# EAGLE library part IXDN602SIA (library 3D_MIG_Controller)
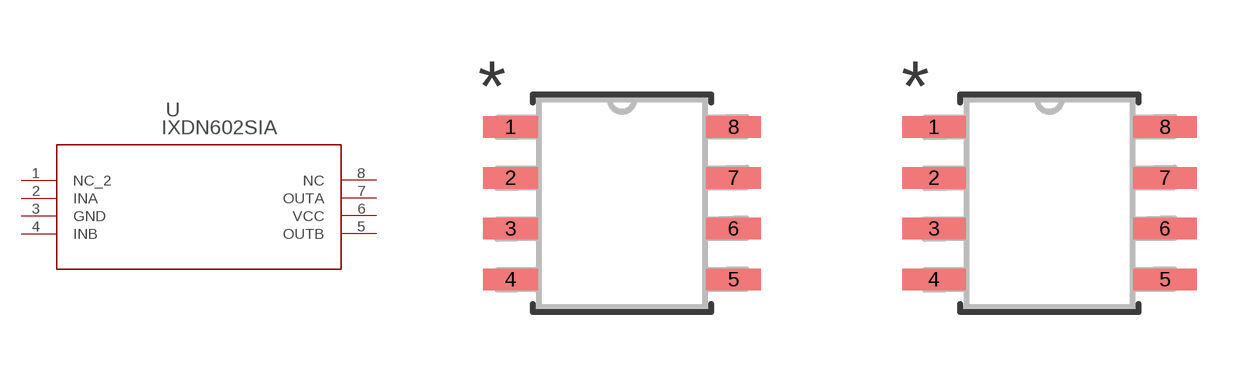
[diagram p57: symbol with the pads of IXYS_SOIC-8_IXY; footprints IXYS_SOIC-8_IXY, IXYS_SOIC-8_IXY-M]

Designator prefix U

## IXDN602SIA (BUILT_BY: EMA_UL_Team; MANUFACTURER_PART_NUMBER: IXDN602SIA; SOURCELIBRARY: IXYS_2014-15-09; VENDOR: IXYS)  [IXYS_SOIC-8_IXY]
1  NC_2  nc
2  INA  in
3  GND  pwr
4  INB  in
5  OUTB  out
6  VCC  pwr
7  OUTA  out
8  NC  nc

## IXDN602SIAIXYS_SOIC-8_IXY-M (BUILT_BY: EMA_UL_Team; MANUFACTURER_PART_NUMBER: IXDN602SIA; SOURCELIBRARY: IXYS_2014-15-09; VENDOR: IXYS)  [IXYS_SOIC-8_IXY-M]
Pads as for IXYS_SOIC-8_IXY

## IXDN602SIAIXYS_SOIC-8_IXY-L (BUILT_BY: EMA_UL_Team; MANUFACTURER_PART_NUMBER: IXDN602SIA; SOURCELIBRARY: IXYS_2014-15-09; VENDOR: IXYS)  [IXYS_SOIC-8_IXY-L]
Pads as for IXYS_SOIC-8_IXY

## Footprint IXYS_SOIC-8_IXY (pad centres in mm)
smd 1.384 x 0.533: 1 -2.788,1.905; 2 -2.788,0.635; 3 -2.788,-0.635; 4 -2.788,-1.905; 5 2.788,-1.905; 6 2.788,-0.635; 7 2.788,0.635; 8 2.788,1.905

## Footprint IXYS_SOIC-8_IXY-M (pad centres in mm)
smd 1.587 x 0.533: 1 -2.889,1.905; 2 -2.889,0.635; 3 -2.889,-0.635; 4 -2.889,-1.905; 5 2.889,-1.905; 6 2.889,-0.635; 7 2.889,0.635; 8 2.889,1.905

## Footprint IXYS_SOIC-8_IXY-L (pad centres in mm)
smd 1.181 x 0.483: 1 -2.686,1.905; 2 -2.686,0.635; 3 -2.686,-0.635; 4 -2.686,-1.905; 5 2.686,-1.905; 6 2.686,-0.635; 7 2.686,0.635; 8 2.686,1.905